# EAGLE library part 74HCT245 (library ds_ic_logic)
Octal bus transceiver; 3-state
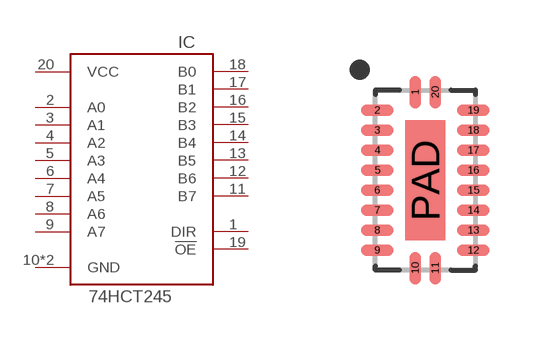
[diagram p1: symbol with the pads of QFN50P250X450X90-21T100X300N; footprint QFN50P250X450X90-21T100X300N]

Designator prefix IC

## 74HCT245BQ (DATASHEET: https://assets.nexperia.com/documents/data-sheet/74HC_HCT245.pdf; DESCRIPTION: 6mA 4.5V~5.5V 6mA DHVQFN-20-EP(2.5x4.5) Buffers, Drivers, Receivers, Transceivers ROHS; LCSC_PART: C547496; VALUE: 74HCT245BQ)  [QFN50P250X450X90-21T100X300N]
1  DIR  in
2  A0
3  A1
4  A2
5  A3
6  A4
7  A5
8  A6
9  A7
10  GND  sup
11  B7
12  B6
13  B5
14  B4
15  B3
16  B2
17  B1
18  B0
19  !OE  in
20  VCC  sup
PAD  GND  sup

## Footprint QFN50P250X450X90-21T100X300N (pad centres in mm)
20-QFN, 0.50 mm pitch, 2.50 X 4.50 X 0.90 mm body, 1.00 X 3.00 mm thermal pad 20-pin QFN package with 0.50 mm pitch with body size 2.50 X 4.50 X 0.90 mm and thermal pad size 1.00 X 3.00 mm
smd 0.282 x 0.812: 1 -0.25,2.2; 10 -0.25,-2.2; 11 0.25,-2.2; 20 0.25,2.2
smd 0.812 x 0.282: 2 -1.2,1.75; 3 -1.2,1.25; 4 -1.2,0.75; 5 -1.2,0.25; 6 -1.2,-0.25; 7 -1.2,-0.75; 8 -1.2,-1.25; 9 -1.2,-1.75; 12 1.2,-1.75; 13 1.2,-1.25; 14 1.2,-0.75; 15 1.2,-0.25; 16 1.2,0.25; 17 1.2,0.75; 18 1.2,1.25; 19 1.2,1.75
smd 1 x 3: PAD 0,0